# EAGLE library part MCP4728 (library CalvEngIO-DigitalIC)
If LDAC pin is LOW the outputs are updated immediately
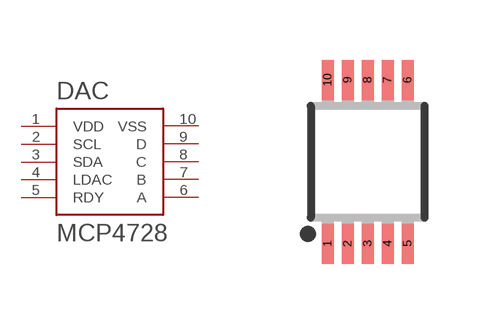
[diagram p9: symbol with the pads of MSOP10; footprint MSOP10]

Designator prefix DAC

## MCP4728  [MSOP10]
1  VDD
2  SCL
3  SDA
4  LDAC
5  RDY
6  A
7  B
8  C
9  D
10  VSS

## Footprint MSOP10 (pad centres in mm)
10 Lead Platic MSOP Source: http://www.linear.com .. LT1996
smd 0.3 x 1: 1 -1,-2.05; 2 -0.5,-2.05; 3 0,-2.05; 4 0.5,-2.05; 5 1,-2.05; 6 1,2.05; 7 0.5,2.05; 8 0,2.05; 9 -0.5,2.05; 10 -1,2.05